# EAGLE library part MC34063A (library parts)
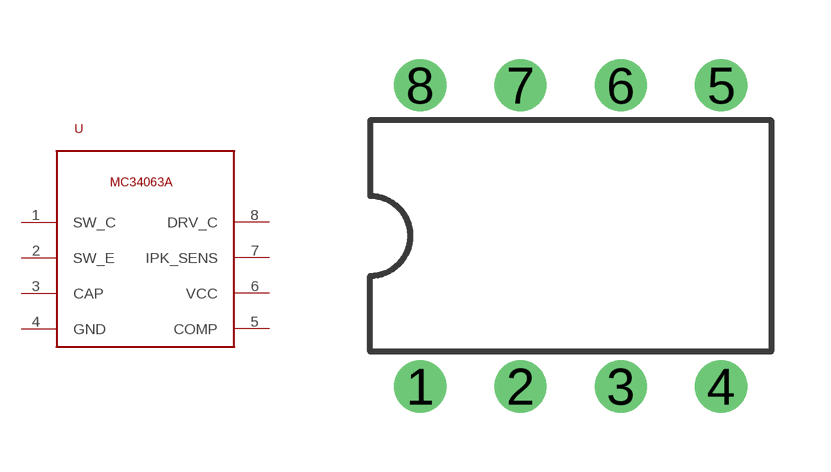
[diagram p0: symbol with the pads of DIL08; footprint DIL08]

Designator prefix U

## MC34063A  [DIL08]
1  SW_C
2  SW_E
3  CAP
4  GND
5  COMP
6  VCC
7  IPK_SENS
8  DRV_C

## Footprint DIL08 (pad centres in mm)
Dual In Line Package
drill 0.813 pad 1.27 round: 1 -3.81,-3.81; 2 -1.27,-3.81; 3 1.27,-3.81; 4 3.81,-3.81; 5 3.81,3.81; 6 1.27,3.81; 7 -1.27,3.81; 8 -3.81,3.81